# Altium integrated library Linear Technology Power Management LDO Linear Regulators.IntLib: 2339 symbols (part 101 of 131)
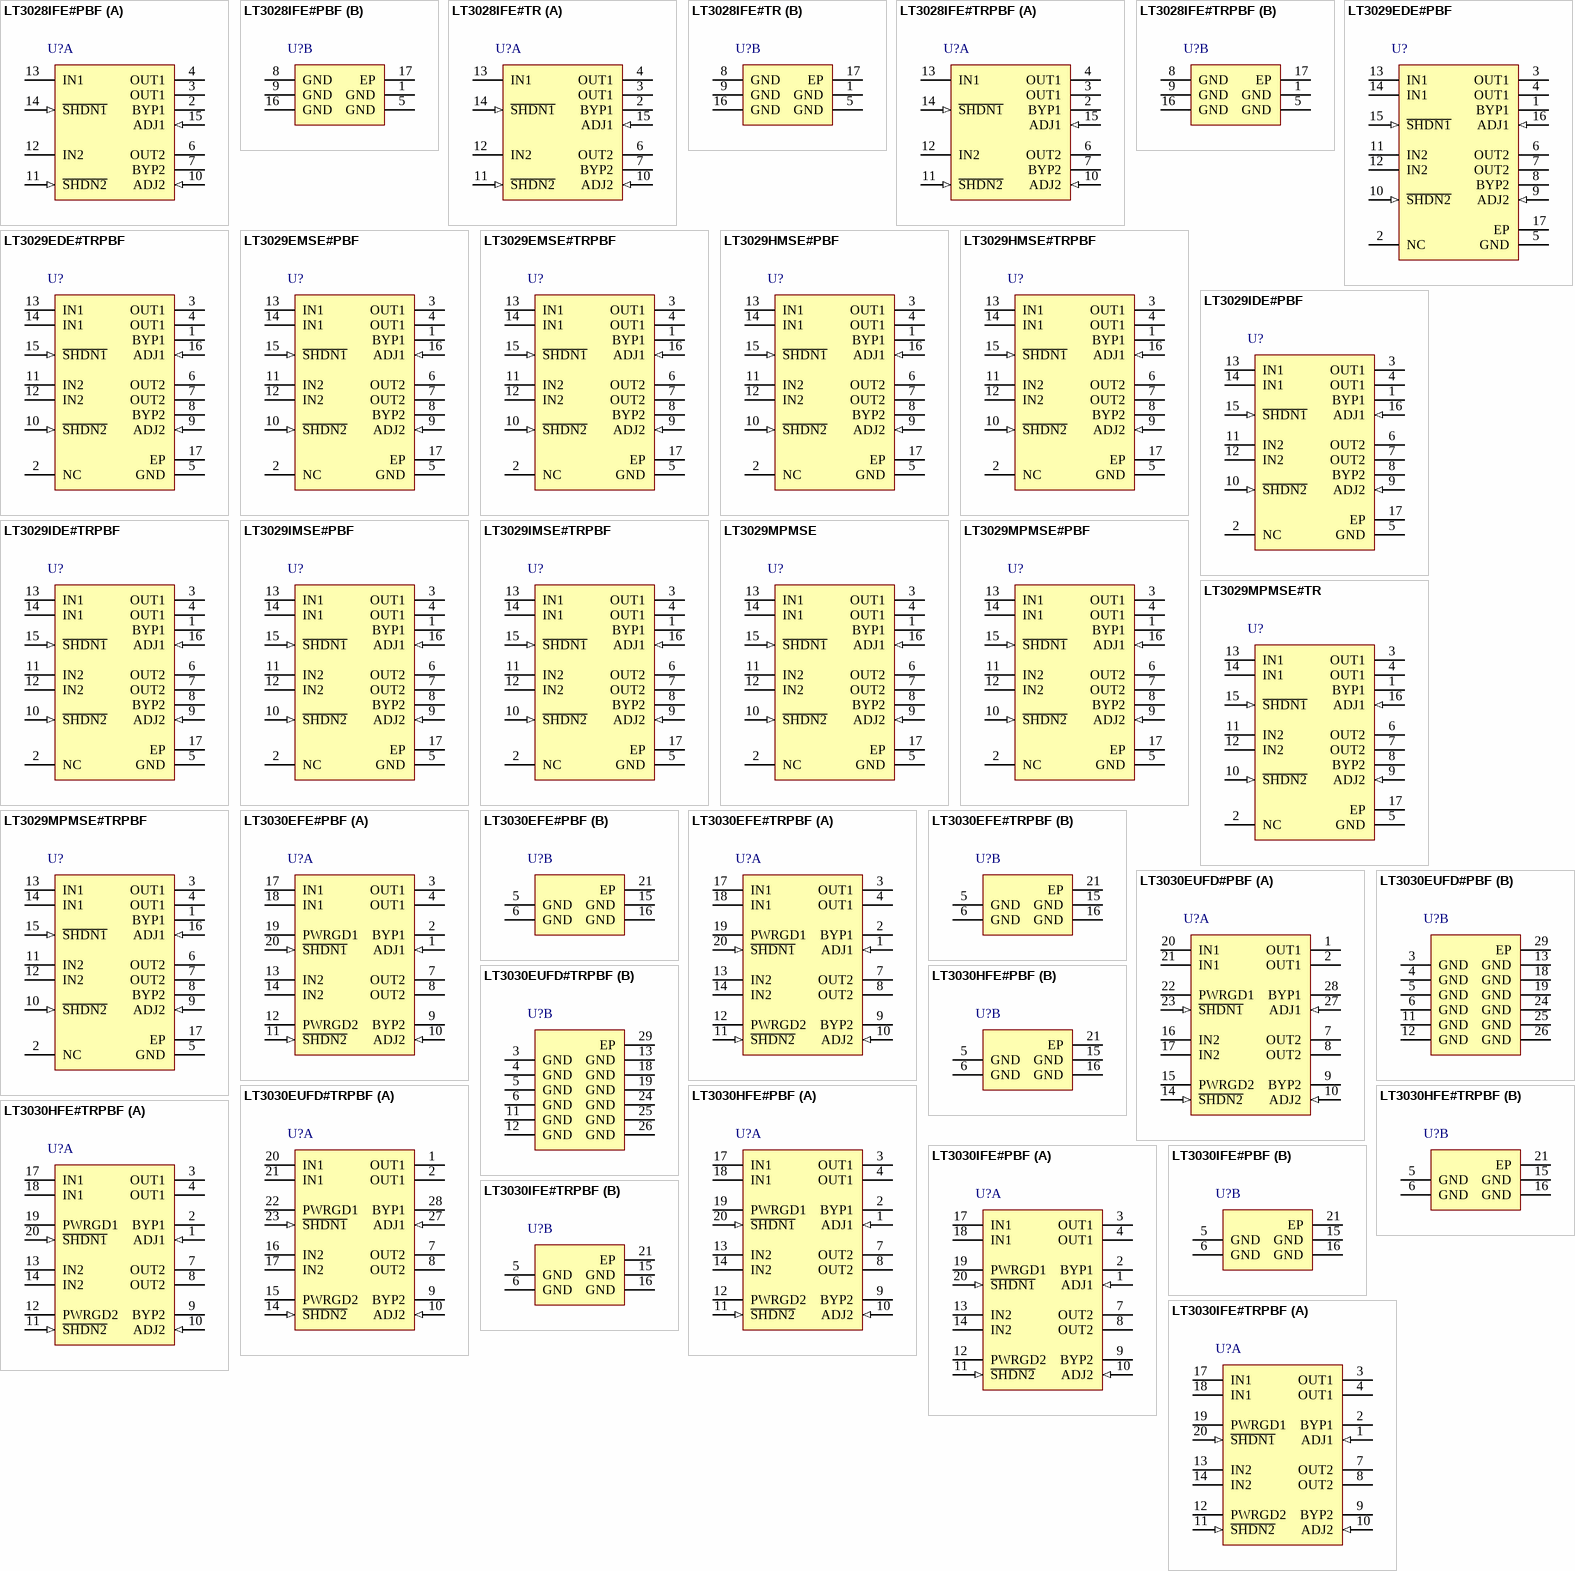
[diagram p169: symbols LT3028IFE#PBF to LT3030IFE#TRPBF]

## LT3030EUFD#PBF
designator U?
Dual 750 mA / 250 mA Low Dropout, Low Noise, Micropower Linear Regulator, 1.7 to 20 V Vin, Adjustable Vout, 28-pin QFN (UFD-28), -40 to 125 degC, Pb-Free; Manufacturer: Linear Technology; PartNumber: LT3030EUFD#PBF; Discrete Pass Element: no; Dropout Voltage(V): 0.3; Iout(mA): 750; Isupply(mA): 15; Noise(uV): 20; Number of Outputs: 2; Output Voltage: Adj; PSRR(dB): 60; Vin Min(V): 1.7; Vout Max(V): 19.5; Vout Min(V): 1.22; DatasheetVersion: Rev. A; PackageVersion: Rev. B, 06/2010; PackageReference: UFD-28; PackageDescription: 28-Pin Plastic QFN, Body 5 x 4 mm, Pitch 0.5 mm; Supplier 1: Digi-Key; Supplier Part Number 1: LT3030EUFD#PBF-ND; Supplier 2: Farnell; Supplier Part Number 2: 2313415; Supplier 3: Newark; Supplier Part Number 3: 71W8563; RoHS: TRUE; Shutdown Current(uA): 0.3; Vin Max(V): 20; Mounting Technology: Surface Mount; Code_JEDEC: MO-220; ComponentLink1Description: Manufacturer URL; ComponentLink1URL: http://www.linear.com/; ComponentLink2Description: Datasheet; ComponentLink2URL: http://cds.linear.com/docs/en/datasheet/3030fa.pdf; ComponentLink3Description: Package Specification; ComponentLink3URL: http://cds.linear.com/docs/en/packaging/QFN_28_05-08-1712.pdf
footprint LT-UFD-28_N (QFN, 28-Leads, Body 5x4mm, Pitch 0.5mm, Thermal Pad 3.65x2.65mm, IPC Medium Density)
footprint LT-UFD-28_L (QFN, 28-Leads, Body 5x4mm, Pitch 0.5mm, Thermal Pad 3.65x2.65mm, IPC High Density)
footprint LT-UFD-28_M (QFN, 28-Leads, Body 5x4mm, Pitch 0.5mm, Thermal Pad 3.65x2.65mm, IPC Low Density)
part A pins: 1 OUT1 (power) "Output. The OUT1/OUT2 pins supply power to the loads. A minimum 10uF/3.3uF output capacitor prevents oscillations on OUT1/OUT2. Applications with large output load transients require larger values of output capacitance to (See Datasheet)", 2 OUT1 (power) "Output. The OUT1/OUT2 pins supply power to the loads. A minimum 10uF/3.3uF output capacitor prevents oscillations on OUT1/OUT2. Applications with large output load transients require larger values of output capacitance to (See Datasheet)", 7 OUT2 (power) "Output. The OUT1/OUT2 pins supply power to the loads. A minimum 10uF/3.3uF output capacitor prevents oscillations on OUT1/OUT2. Applications with large output load transients require larger values of output capacitance to (See Datasheet)", 8 OUT2 (power) "Output. The OUT1/OUT2 pins supply power to the loads. A minimum 10uF/3.3uF output capacitor prevents oscillations on OUT1/OUT2. Applications with large output load transients require larger values of output capacitance to (See Datasheet)", 9 BYP2 "Bypass. Connecting a capacitor between OUT and BYP of a respective channel bypasses the LT3030 reference to achieve low noise performance, improve transient response and soft-start the output. Internal circuitry clamps the (See Datasheet)", 10 ADJ2 (in) "Adjust Pin. These are the error amplifier inputs. These pins are internally clamped to +/-9V. A typical input bias current of 30nA flows into the pins (see curve of ADJ1/ADJ2 Pin Bias Current vs Temperature in the Typical (See Datasheet)", 14 ~{SHDN2} (in) "Shutdown. Pulling the S\H\D\N\1\ or S\H\D\N\2\ pin low puts its corresponding LT3030 channel into a low power state and turns its output off. The S\H\D\N\1\ and S\H\D\N\2\ pins are completely independent of each other, and (See Datasheet)", 15 PWRGD2 (hiz) "Power Good. The PWRGD flag is an open-collector flag to indicate that the output voltage has increased above 90% of the nominal output voltage. There is no internal pull-up on this pin; a pull-up resistor must be used. The (See Datasheet)", 16 IN2 (power) "Input. The IN1/IN2 pins supply power to each channel. The LT3030 requires a bypass capacitor at the IN1/IN2 pins if located more than six inches away from the main input filter capacitor. Include a bypass capacitor in (See Datasheet)", 17 IN2 (power) "Input. The IN1/IN2 pins supply power to each channel. The LT3030 requires a bypass capacitor at the IN1/IN2 pins if located more than six inches away from the main input filter capacitor. Include a bypass capacitor in (See Datasheet)", 20 IN1 (power) "Input. The IN1/IN2 pins supply power to each channel. The LT3030 requires a bypass capacitor at the IN1/IN2 pins if located more than six inches away from the main input filter capacitor. Include a bypass capacitor in (See Datasheet)", 21 IN1 (power) "Input. The IN1/IN2 pins supply power to each channel. The LT3030 requires a bypass capacitor at the IN1/IN2 pins if located more than six inches away from the main input filter capacitor. Include a bypass capacitor in (See Datasheet)", 22 PWRGD1 (hiz) "Power Good. The PWRGD flag is an open-collector flag to indicate that the output voltage has increased above 90% of the nominal output voltage. There is no internal pull-up on this pin; a pull-up resistor must be used. The (See Datasheet)", 23 ~{SHDN1} (in) "Shutdown. Pulling the S\H\D\N\1\ or S\H\D\N\2\ pin low puts its corresponding LT3030 channel into a low power state and turns its output off. The S\H\D\N\1\ and S\H\D\N\2\ pins are completely independent of each other, and (See Datasheet)", 27 ADJ1 (in) "Adjust Pin. These are the error amplifier inputs. These pins are internally clamped to +/-9V. A typical input bias current of 30nA flows into the pins (see curve of ADJ1/ADJ2 Pin Bias Current vs Temperature in the Typical (See Datasheet)", 28 BYP1 "Bypass. Connecting a capacitor between OUT and BYP of a respective channel bypasses the LT3030 reference to achieve low noise performance, improve transient response and soft-start the output. Internal circuitry clamps the (See Datasheet)"
part B pins: 3 GND (power) "Ground. The exposed pad (backside) of the QFN and TSSOP packages is an electrical connection to GND. To ensure proper electrical and thermal performance, solder the exposed pad to the PCB ground and tie directly to GND pins. (See Datasheet)", 4 GND (power) "Ground. The exposed pad (backside) of the QFN and TSSOP packages is an electrical connection to GND. To ensure proper electrical and thermal performance, solder the exposed pad to the PCB ground and tie directly to GND pins. (See Datasheet)", 5 GND (power) "Ground. The exposed pad (backside) of the QFN and TSSOP packages is an electrical connection to GND. To ensure proper electrical and thermal performance, solder the exposed pad to the PCB ground and tie directly to GND pins. (See Datasheet)", 6 GND (power) "Ground. The exposed pad (backside) of the QFN and TSSOP packages is an electrical connection to GND. To ensure proper electrical and thermal performance, solder the exposed pad to the PCB ground and tie directly to GND pins. (See Datasheet)", 11 GND (power) "Ground. The exposed pad (backside) of the QFN and TSSOP packages is an electrical connection to GND. To ensure proper electrical and thermal performance, solder the exposed pad to the PCB ground and tie directly to GND pins. (See Datasheet)", 12 GND (power) "Ground. The exposed pad (backside) of the QFN and TSSOP packages is an electrical connection to GND. To ensure proper electrical and thermal performance, solder the exposed pad to the PCB ground and tie directly to GND pins. (See Datasheet)", 13 GND (power) "Ground. The exposed pad (backside) of the QFN and TSSOP packages is an electrical connection to GND. To ensure proper electrical and thermal performance, solder the exposed pad to the PCB ground and tie directly to GND pins. (See Datasheet)", 18 GND (power) "Ground. The exposed pad (backside) of the QFN and TSSOP packages is an electrical connection to GND. To ensure proper electrical and thermal performance, solder the exposed pad to the PCB ground and tie directly to GND pins. (See Datasheet)", 19 GND (power) "Ground. The exposed pad (backside) of the QFN and TSSOP packages is an electrical connection to GND. To ensure proper electrical and thermal performance, solder the exposed pad to the PCB ground and tie directly to GND pins. (See Datasheet)", 24 GND (power) "Ground. The exposed pad (backside) of the QFN and TSSOP packages is an electrical connection to GND. To ensure proper electrical and thermal performance, solder the exposed pad to the PCB ground and tie directly to GND pins. (See Datasheet)", 25 GND (power) "Ground. The exposed pad (backside) of the QFN and TSSOP packages is an electrical connection to GND. To ensure proper electrical and thermal performance, solder the exposed pad to the PCB ground and tie directly to GND pins. (See Datasheet)", 26 GND (power) "Ground. The exposed pad (backside) of the QFN and TSSOP packages is an electrical connection to GND. To ensure proper electrical and thermal performance, solder the exposed pad to the PCB ground and tie directly to GND pins. (See Datasheet)", 29 EP (power) "Ground. The exposed pad (backside) of the QFN and TSSOP packages is an electrical connection to GND. To ensure proper electrical and thermal performance, solder the exposed pad to the PCB ground and tie directly to GND pins. (See Datasheet)"

## LT3030EUFD#TRPBF
designator U?
Dual 750 mA / 250 mA Low Dropout, Low Noise, Micropower Linear Regulator, 1.7 to 20 V Vin, Adjustable Vout, 28-pin QFN (UFD-28), -40 to 125 degC, Pb-Free, Tape and Reel; Manufacturer: Linear Technology; PartNumber: LT3030EUFD#TRPBF; Discrete Pass Element: no; Dropout Voltage(V): 0.3; Iout(mA): 750; Isupply(mA): 15; Noise(uV): 20; Number of Outputs: 2; Output Voltage: Adj; PSRR(dB): 60; Vin Min(V): 1.7; Vout Max(V): 19.5; Vout Min(V): 1.22; DatasheetVersion: Rev. A; PackageVersion: Rev. B, 06/2010; PackageReference: UFD-28; PackageDescription: 28-Pin Plastic QFN, Body 5 x 4 mm, Pitch 0.5 mm; Supplier 1: Digi-Key; Supplier Part Number 1: LT3030EUFD#TRPBF-ND; Supplier 2: Newark; Supplier Part Number 2: 71W8564; Packing: Tape and Reel; RoHS: TRUE; Shutdown Current(uA): 0.3; Vin Max(V): 20; Mounting Technology: Surface Mount; Code_JEDEC: MO-220; ComponentLink1Description: Manufacturer URL; ComponentLink1URL: http://www.linear.com/; ComponentLink2Description: Datasheet; ComponentLink2URL: http://cds.linear.com/docs/en/datasheet/3030fa.pdf; ComponentLink3Description: Package Specification; ComponentLink3URL: http://cds.linear.com/docs/en/packaging/QFN_28_05-08-1712.pdf
footprint LT-UFD-28_N (QFN, 28-Leads, Body 5x4mm, Pitch 0.5mm, Thermal Pad 3.65x2.65mm, IPC Medium Density)
footprint LT-UFD-28_L (QFN, 28-Leads, Body 5x4mm, Pitch 0.5mm, Thermal Pad 3.65x2.65mm, IPC High Density)
footprint LT-UFD-28_M (QFN, 28-Leads, Body 5x4mm, Pitch 0.5mm, Thermal Pad 3.65x2.65mm, IPC Low Density)
part A pins: 1 OUT1 (power) "Output. The OUT1/OUT2 pins supply power to the loads. A minimum 10uF/3.3uF output capacitor prevents oscillations on OUT1/OUT2. Applications with large output load transients require larger values of output capacitance to (See Datasheet)", 2 OUT1 (power) "Output. The OUT1/OUT2 pins supply power to the loads. A minimum 10uF/3.3uF output capacitor prevents oscillations on OUT1/OUT2. Applications with large output load transients require larger values of output capacitance to (See Datasheet)", 7 OUT2 (power) "Output. The OUT1/OUT2 pins supply power to the loads. A minimum 10uF/3.3uF output capacitor prevents oscillations on OUT1/OUT2. Applications with large output load transients require larger values of output capacitance to (See Datasheet)", 8 OUT2 (power) "Output. The OUT1/OUT2 pins supply power to the loads. A minimum 10uF/3.3uF output capacitor prevents oscillations on OUT1/OUT2. Applications with large output load transients require larger values of output capacitance to (See Datasheet)", 9 BYP2 "Bypass. Connecting a capacitor between OUT and BYP of a respective channel bypasses the LT3030 reference to achieve low noise performance, improve transient response and soft-start the output. Internal circuitry clamps the (See Datasheet)", 10 ADJ2 (in) "Adjust Pin. These are the error amplifier inputs. These pins are internally clamped to +/-9V. A typical input bias current of 30nA flows into the pins (see curve of ADJ1/ADJ2 Pin Bias Current vs Temperature in the Typical (See Datasheet)", 14 ~{SHDN2} (in) "Shutdown. Pulling the S\H\D\N\1\ or S\H\D\N\2\ pin low puts its corresponding LT3030 channel into a low power state and turns its output off. The S\H\D\N\1\ and S\H\D\N\2\ pins are completely independent of each other, and (See Datasheet)", 15 PWRGD2 (hiz) "Power Good. The PWRGD flag is an open-collector flag to indicate that the output voltage has increased above 90% of the nominal output voltage. There is no internal pull-up on this pin; a pull-up resistor must be used. The (See Datasheet)", 16 IN2 (power) "Input. The IN1/IN2 pins supply power to each channel. The LT3030 requires a bypass capacitor at the IN1/IN2 pins if located more than six inches away from the main input filter capacitor. Include a bypass capacitor in (See Datasheet)", 17 IN2 (power) "Input. The IN1/IN2 pins supply power to each channel. The LT3030 requires a bypass capacitor at the IN1/IN2 pins if located more than six inches away from the main input filter capacitor. Include a bypass capacitor in (See Datasheet)", 20 IN1 (power) "Input. The IN1/IN2 pins supply power to each channel. The LT3030 requires a bypass capacitor at the IN1/IN2 pins if located more than six inches away from the main input filter capacitor. Include a bypass capacitor in (See Datasheet)", 21 IN1 (power) "Input. The IN1/IN2 pins supply power to each channel. The LT3030 requires a bypass capacitor at the IN1/IN2 pins if located more than six inches away from the main input filter capacitor. Include a bypass capacitor in (See Datasheet)", 22 PWRGD1 (hiz) "Power Good. The PWRGD flag is an open-collector flag to indicate that the output voltage has increased above 90% of the nominal output voltage. There is no internal pull-up on this pin; a pull-up resistor must be used. The (See Datasheet)", 23 ~{SHDN1} (in) "Shutdown. Pulling the S\H\D\N\1\ or S\H\D\N\2\ pin low puts its corresponding LT3030 channel into a low power state and turns its output off. The S\H\D\N\1\ and S\H\D\N\2\ pins are completely independent of each other, and (See Datasheet)", 27 ADJ1 (in) "Adjust Pin. These are the error amplifier inputs. These pins are internally clamped to +/-9V. A typical input bias current of 30nA flows into the pins (see curve of ADJ1/ADJ2 Pin Bias Current vs Temperature in the Typical (See Datasheet)", 28 BYP1 "Bypass. Connecting a capacitor between OUT and BYP of a respective channel bypasses the LT3030 reference to achieve low noise performance, improve transient response and soft-start the output. Internal circuitry clamps the (See Datasheet)"
part B pins: 3 GND (power) "Ground. The exposed pad (backside) of the QFN and TSSOP packages is an electrical connection to GND. To ensure proper electrical and thermal performance, solder the exposed pad to the PCB ground and tie directly to GND pins. (See Datasheet)", 4 GND (power) "Ground. The exposed pad (backside) of the QFN and TSSOP packages is an electrical connection to GND. To ensure proper electrical and thermal performance, solder the exposed pad to the PCB ground and tie directly to GND pins. (See Datasheet)", 5 GND (power) "Ground. The exposed pad (backside) of the QFN and TSSOP packages is an electrical connection to GND. To ensure proper electrical and thermal performance, solder the exposed pad to the PCB ground and tie directly to GND pins. (See Datasheet)", 6 GND (power) "Ground. The exposed pad (backside) of the QFN and TSSOP packages is an electrical connection to GND. To ensure proper electrical and thermal performance, solder the exposed pad to the PCB ground and tie directly to GND pins. (See Datasheet)", 11 GND (power) "Ground. The exposed pad (backside) of the QFN and TSSOP packages is an electrical connection to GND. To ensure proper electrical and thermal performance, solder the exposed pad to the PCB ground and tie directly to GND pins. (See Datasheet)", 12 GND (power) "Ground. The exposed pad (backside) of the QFN and TSSOP packages is an electrical connection to GND. To ensure proper electrical and thermal performance, solder the exposed pad to the PCB ground and tie directly to GND pins. (See Datasheet)", 13 GND (power) "Ground. The exposed pad (backside) of the QFN and TSSOP packages is an electrical connection to GND. To ensure proper electrical and thermal performance, solder the exposed pad to the PCB ground and tie directly to GND pins. (See Datasheet)", 18 GND (power) "Ground. The exposed pad (backside) of the QFN and TSSOP packages is an electrical connection to GND. To ensure proper electrical and thermal performance, solder the exposed pad to the PCB ground and tie directly to GND pins. (See Datasheet)", 19 GND (power) "Ground. The exposed pad (backside) of the QFN and TSSOP packages is an electrical connection to GND. To ensure proper electrical and thermal performance, solder the exposed pad to the PCB ground and tie directly to GND pins. (See Datasheet)", 24 GND (power) "Ground. The exposed pad (backside) of the QFN and TSSOP packages is an electrical connection to GND. To ensure proper electrical and thermal performance, solder the exposed pad to the PCB ground and tie directly to GND pins. (See Datasheet)", 25 GND (power) "Ground. The exposed pad (backside) of the QFN and TSSOP packages is an electrical connection to GND. To ensure proper electrical and thermal performance, solder the exposed pad to the PCB ground and tie directly to GND pins. (See Datasheet)", 26 GND (power) "Ground. The exposed pad (backside) of the QFN and TSSOP packages is an electrical connection to GND. To ensure proper electrical and thermal performance, solder the exposed pad to the PCB ground and tie directly to GND pins. (See Datasheet)", 29 EP (power) "Ground. The exposed pad (backside) of the QFN and TSSOP packages is an electrical connection to GND. To ensure proper electrical and thermal performance, solder the exposed pad to the PCB ground and tie directly to GND pins. (See Datasheet)"

## LT3030HFE#PBF
designator U?
Dual 750 mA / 250 mA Low Dropout, Low Noise, Micropower Linear Regulator, 1.7 to 20 V Vin, Adjustable Vout, 20-pin SOP (FE-20-EPV-CB), -40 to 150 degC, Pb-Free; Manufacturer: Linear Technology; PartNumber: LT3030HFE#PBF; Discrete Pass Element: no; Dropout Voltage(V): 0.3; Iout(mA): 750; Isupply(mA): 15; Noise(uV): 20; Number of Outputs: 2; Output Voltage: Adj; PSRR(dB): 60; Vin Min(V): 1.7; Vout Max(V): 19.5; Vout Min(V): 1.22; DatasheetVersion: Rev. A; PackageVersion: Rev. I, 05/2011; PackageReference: FE-20; PackageDescription: 20-Pin Plastic TSSOP, Body 6.5 x 4.4 mm, Pitch 0.65 mm; Supplier 1: Digi-Key; Supplier Part Number 1: LT3030HFE#PBF-ND; Supplier 2: Farnell; Supplier Part Number 2: 2313416; Supplier 3: Newark; Supplier Part Number 3: 71W8565; RoHS: TRUE; Shutdown Current(uA): 0.3; Vin Max(V): 20; Mounting Technology: Surface Mount; ComponentLink1Description: Manufacturer URL; ComponentLink1URL: http://www.linear.com/; ComponentLink2Description: Datasheet; ComponentLink2URL: http://cds.linear.com/docs/en/datasheet/3030fa.pdf; ComponentLink3Description: Package Specification; ComponentLink3URL: http://cds.linear.com/docs/en/packaging/05081663__J_FE20(CB).pdf
footprint LT-FE-20-EPV-CB_N (SOP, 20-Leads, Body 6.6x4.5mm, Pitch 0.65mm, Thermal Pad 3.86x2.74mm, IPC Medium Density)
footprint LT-FE-20-EPV-CB_L (SOP, 20-Leads, Body 6.6x4.5mm, Pitch 0.65mm, Thermal Pad 3.86x2.74mm, IPC High Density)
footprint LT-FE-20-EPV-CB_M (SOP, 20-Leads, Body 6.6x4.5mm, Pitch 0.65mm, Thermal Pad 3.86x2.74mm, IPC Low Density)
part A pins: 1 ADJ1 (in) "Adjust Pin. These are the error amplifier inputs. These pins are internally clamped to +/-9V. A typical input bias current of 30nA flows into the pins (see curve of ADJ1/ADJ2 Pin Bias Current vs Temperature in the Typical (See Datasheet)", 2 BYP1 "Bypass. Connecting a capacitor between OUT and BYP of a respective channel bypasses the LT3030 reference to achieve low noise performance, improve transient response and soft-start the output. Internal circuitry clamps the (See Datasheet)", 3 OUT1 (power) "Output. The OUT1/OUT2 pins supply power to the loads. A minimum 10uF/3.3uF output capacitor prevents oscillations on OUT1/OUT2. Applications with large output load transients require larger values of output capacitance to (See Datasheet)", 4 OUT1 (power) "Output. The OUT1/OUT2 pins supply power to the loads. A minimum 10uF/3.3uF output capacitor prevents oscillations on OUT1/OUT2. Applications with large output load transients require larger values of output capacitance to (See Datasheet)", 7 OUT2 (power) "Output. The OUT1/OUT2 pins supply power to the loads. A minimum 10uF/3.3uF output capacitor prevents oscillations on OUT1/OUT2. Applications with large output load transients require larger values of output capacitance to (See Datasheet)", 8 OUT2 (power) "Output. The OUT1/OUT2 pins supply power to the loads. A minimum 10uF/3.3uF output capacitor prevents oscillations on OUT1/OUT2. Applications with large output load transients require larger values of output capacitance to (See Datasheet)", 9 BYP2 "Bypass. Connecting a capacitor between OUT and BYP of a respective channel bypasses the LT3030 reference to achieve low noise performance, improve transient response and soft-start the output. Internal circuitry clamps the (See Datasheet)", 10 ADJ2 (in) "Adjust Pin. These are the error amplifier inputs. These pins are internally clamped to +/-9V. A typical input bias current of 30nA flows into the pins (see curve of ADJ1/ADJ2 Pin Bias Current vs Temperature in the Typical (See Datasheet)", 11 ~{SHDN2} (in) "Shutdown. Pulling the S\H\D\N\1\ or S\H\D\N\2\ pin low puts its corresponding LT3030 channel into a low power state and turns its output off. The S\H\D\N\1\ and S\H\D\N\2\ pins are completely independent of each other, and (See Datasheet)", 12 PWRGD2 (hiz) "Power Good. The PWRGD flag is an open-collector flag to indicate that the output voltage has increased above 90% of the nominal output voltage. There is no internal pull-up on this pin; a pull-up resistor must be used. The (See Datasheet)", 13 IN2 (power) "Input. The IN1/IN2 pins supply power to each channel. The LT3030 requires a bypass capacitor at the IN1/IN2 pins if located more than six inches away from the main input filter capacitor. Include a bypass capacitor in (See Datasheet)", 14 IN2 (power) "Input. The IN1/IN2 pins supply power to each channel. The LT3030 requires a bypass capacitor at the IN1/IN2 pins if located more than six inches away from the main input filter capacitor. Include a bypass capacitor in (See Datasheet)", 17 IN1 (power) "Input. The IN1/IN2 pins supply power to each channel. The LT3030 requires a bypass capacitor at the IN1/IN2 pins if located more than six inches away from the main input filter capacitor. Include a bypass capacitor in (See Datasheet)", 18 IN1 (power) "Input. The IN1/IN2 pins supply power to each channel. The LT3030 requires a bypass capacitor at the IN1/IN2 pins if located more than six inches away from the main input filter capacitor. Include a bypass capacitor in (See Datasheet)", 19 PWRGD1 (hiz) "Power Good. The PWRGD flag is an open-collector flag to indicate that the output voltage has increased above 90% of the nominal output voltage. There is no internal pull-up on this pin; a pull-up resistor must be used. The (See Datasheet)", 20 ~{SHDN1} (in) "Shutdown. Pulling the S\H\D\N\1\ or S\H\D\N\2\ pin low puts its corresponding LT3030 channel into a low power state and turns its output off. The S\H\D\N\1\ and S\H\D\N\2\ pins are completely independent of each other, and (See Datasheet)"
part B pins: 5 GND (power) "Ground. The exposed pad (backside) of the QFN and TSSOP packages is an electrical connection to GND. To ensure proper electrical and thermal performance, solder the exposed pad to the PCB ground and tie directly to GND pins. (See Datasheet)", 6 GND (power) "Ground. The exposed pad (backside) of the QFN and TSSOP packages is an electrical connection to GND. To ensure proper electrical and thermal performance, solder the exposed pad to the PCB ground and tie directly to GND pins. (See Datasheet)", 15 GND (power) "Ground. The exposed pad (backside) of the QFN and TSSOP packages is an electrical connection to GND. To ensure proper electrical and thermal performance, solder the exposed pad to the PCB ground and tie directly to GND pins. (See Datasheet)", 16 GND (power) "Ground. The exposed pad (backside) of the QFN and TSSOP packages is an electrical connection to GND. To ensure proper electrical and thermal performance, solder the exposed pad to the PCB ground and tie directly to GND pins. (See Datasheet)", 21 EP (power) "Ground. The exposed pad (backside) of the QFN and TSSOP packages is an electrical connection to GND. To ensure proper electrical and thermal performance, solder the exposed pad to the PCB ground and tie directly to GND pins. (See Datasheet)"

## LT3030HFE#TRPBF
designator U?
Dual 750 mA / 250 mA Low Dropout, Low Noise, Micropower Linear Regulator, 1.7 to 20 V Vin, Adjustable Vout, 20-pin SOP (FE-20-EPV-CB), -40 to 150 degC, Pb-Free, Tape and Reel; Manufacturer: Linear Technology; PartNumber: LT3030HFE#TRPBF; Discrete Pass Element: no; Dropout Voltage(V): 0.3; Iout(mA): 750; Isupply(mA): 15; Noise(uV): 20; Number of Outputs: 2; Output Voltage: Adj; PSRR(dB): 60; Vin Min(V): 1.7; Vout Max(V): 19.5; Vout Min(V): 1.22; DatasheetVersion: Rev. A; PackageVersion: Rev. I, 05/2011; PackageReference: FE-20; PackageDescription: 20-Pin Plastic TSSOP, Body 6.5 x 4.4 mm, Pitch 0.65 mm; Supplier 1: Digi-Key; Supplier Part Number 1: LT3030HFE#TRPBF-ND; Supplier 2: Newark; Supplier Part Number 2: 71W8566; Packing: Tape and Reel; RoHS: TRUE; Shutdown Current(uA): 0.3; Vin Max(V): 20; Mounting Technology: Surface Mount; ComponentLink1Description: Manufacturer URL; ComponentLink1URL: http://www.linear.com/; ComponentLink2Description: Datasheet; ComponentLink2URL: http://cds.linear.com/docs/en/datasheet/3030fa.pdf; ComponentLink3Description: Package Specification; ComponentLink3URL: http://cds.linear.com/docs/en/packaging/05081663__J_FE20(CB).pdf
footprint LT-FE-20-EPV-CB_N (SOP, 20-Leads, Body 6.6x4.5mm, Pitch 0.65mm, Thermal Pad 3.86x2.74mm, IPC Medium Density)
footprint LT-FE-20-EPV-CB_L (SOP, 20-Leads, Body 6.6x4.5mm, Pitch 0.65mm, Thermal Pad 3.86x2.74mm, IPC High Density)
footprint LT-FE-20-EPV-CB_M (SOP, 20-Leads, Body 6.6x4.5mm, Pitch 0.65mm, Thermal Pad 3.86x2.74mm, IPC Low Density)
part A pins: 1 ADJ1 (in) "Adjust Pin. These are the error amplifier inputs. These pins are internally clamped to +/-9V. A typical input bias current of 30nA flows into the pins (see curve of ADJ1/ADJ2 Pin Bias Current vs Temperature in the Typical (See Datasheet)", 2 BYP1 "Bypass. Connecting a capacitor between OUT and BYP of a respective channel bypasses the LT3030 reference to achieve low noise performance, improve transient response and soft-start the output. Internal circuitry clamps the (See Datasheet)", 3 OUT1 (power) "Output. The OUT1/OUT2 pins supply power to the loads. A minimum 10uF/3.3uF output capacitor prevents oscillations on OUT1/OUT2. Applications with large output load transients require larger values of output capacitance to (See Datasheet)", 4 OUT1 (power) "Output. The OUT1/OUT2 pins supply power to the loads. A minimum 10uF/3.3uF output capacitor prevents oscillations on OUT1/OUT2. Applications with large output load transients require larger values of output capacitance to (See Datasheet)", 7 OUT2 (power) "Output. The OUT1/OUT2 pins supply power to the loads. A minimum 10uF/3.3uF output capacitor prevents oscillations on OUT1/OUT2. Applications with large output load transients require larger values of output capacitance to (See Datasheet)", 8 OUT2 (power) "Output. The OUT1/OUT2 pins supply power to the loads. A minimum 10uF/3.3uF output capacitor prevents oscillations on OUT1/OUT2. Applications with large output load transients require larger values of output capacitance to (See Datasheet)", 9 BYP2 "Bypass. Connecting a capacitor between OUT and BYP of a respective channel bypasses the LT3030 reference to achieve low noise performance, improve transient response and soft-start the output. Internal circuitry clamps the (See Datasheet)", 10 ADJ2 (in) "Adjust Pin. These are the error amplifier inputs. These pins are internally clamped to +/-9V. A typical input bias current of 30nA flows into the pins (see curve of ADJ1/ADJ2 Pin Bias Current vs Temperature in the Typical (See Datasheet)", 11 ~{SHDN2} (in) "Shutdown. Pulling the S\H\D\N\1\ or S\H\D\N\2\ pin low puts its corresponding LT3030 channel into a low power state and turns its output off. The S\H\D\N\1\ and S\H\D\N\2\ pins are completely independent of each other, and (See Datasheet)", 12 PWRGD2 (hiz) "Power Good. The PWRGD flag is an open-collector flag to indicate that the output voltage has increased above 90% of the nominal output voltage. There is no internal pull-up on this pin; a pull-up resistor must be used. The (See Datasheet)", 13 IN2 (power) "Input. The IN1/IN2 pins supply power to each channel. The LT3030 requires a bypass capacitor at the IN1/IN2 pins if located more than six inches away from the main input filter capacitor. Include a bypass capacitor in (See Datasheet)", 14 IN2 (power) "Input. The IN1/IN2 pins supply power to each channel. The LT3030 requires a bypass capacitor at the IN1/IN2 pins if located more than six inches away from the main input filter capacitor. Include a bypass capacitor in (See Datasheet)", 17 IN1 (power) "Input. The IN1/IN2 pins supply power to each channel. The LT3030 requires a bypass capacitor at the IN1/IN2 pins if located more than six inches away from the main input filter capacitor. Include a bypass capacitor in (See Datasheet)", 18 IN1 (power) "Input. The IN1/IN2 pins supply power to each channel. The LT3030 requires a bypass capacitor at the IN1/IN2 pins if located more than six inches away from the main input filter capacitor. Include a bypass capacitor in (See Datasheet)", 19 PWRGD1 (hiz) "Power Good. The PWRGD flag is an open-collector flag to indicate that the output voltage has increased above 90% of the nominal output voltage. There is no internal pull-up on this pin; a pull-up resistor must be used. The (See Datasheet)", 20 ~{SHDN1} (in) "Shutdown. Pulling the S\H\D\N\1\ or S\H\D\N\2\ pin low puts its corresponding LT3030 channel into a low power state and turns its output off. The S\H\D\N\1\ and S\H\D\N\2\ pins are completely independent of each other, and (See Datasheet)"
part B pins: 5 GND (power) "Ground. The exposed pad (backside) of the QFN and TSSOP packages is an electrical connection to GND. To ensure proper electrical and thermal performance, solder the exposed pad to the PCB ground and tie directly to GND pins. (See Datasheet)", 6 GND (power) "Ground. The exposed pad (backside) of the QFN and TSSOP packages is an electrical connection to GND. To ensure proper electrical and thermal performance, solder the exposed pad to the PCB ground and tie directly to GND pins. (See Datasheet)", 15 GND (power) "Ground. The exposed pad (backside) of the QFN and TSSOP packages is an electrical connection to GND. To ensure proper electrical and thermal performance, solder the exposed pad to the PCB ground and tie directly to GND pins. (See Datasheet)", 16 GND (power) "Ground. The exposed pad (backside) of the QFN and TSSOP packages is an electrical connection to GND. To ensure proper electrical and thermal performance, solder the exposed pad to the PCB ground and tie directly to GND pins. (See Datasheet)", 21 EP (power) "Ground. The exposed pad (backside) of the QFN and TSSOP packages is an electrical connection to GND. To ensure proper electrical and thermal performance, solder the exposed pad to the PCB ground and tie directly to GND pins. (See Datasheet)"

## LT3030IFE#PBF
designator U?
Dual 750 mA / 250 mA Low Dropout, Low Noise, Micropower Linear Regulator, 1.7 to 20 V Vin, Adjustable Vout, 20-pin SOP (FE-20-EPV-CB), -40 to 125 degC, Pb-Free; Manufacturer: Linear Technology; PartNumber: LT3030IFE#PBF; Discrete Pass Element: no; Dropout Voltage(V): 0.3; Iout(mA): 750; Isupply(mA): 15; Noise(uV): 20; Number of Outputs: 2; Output Voltage: Adj; PSRR(dB): 60; Vin Min(V): 1.7; Vout Max(V): 19.5; Vout Min(V): 1.22; DatasheetVersion: Rev. A; PackageVersion: Rev. I, 05/2011; PackageReference: FE-20; PackageDescription: 20-Pin Plastic TSSOP, Body 6.5 x 4.4 mm, Pitch 0.65 mm; Supplier 1: Digi-Key; Supplier Part Number 1: LT3030IFE#PBF-ND; Supplier 2: Farnell; Supplier Part Number 2: 2313417; Supplier 3: Newark; Supplier Part Number 3: 71W8567; RoHS: TRUE; Shutdown Current(uA): 0.3; Vin Max(V): 20; Mounting Technology: Surface Mount; ComponentLink1Description: Manufacturer URL; ComponentLink1URL: http://www.linear.com/; ComponentLink2Description: Datasheet; ComponentLink2URL: http://cds.linear.com/docs/en/datasheet/3030fa.pdf; ComponentLink3Description: Package Specification; ComponentLink3URL: http://cds.linear.com/docs/en/packaging/05081663__J_FE20(CB).pdf
footprint LT-FE-20-EPV-CB_N (SOP, 20-Leads, Body 6.6x4.5mm, Pitch 0.65mm, Thermal Pad 3.86x2.74mm, IPC Medium Density)
footprint LT-FE-20-EPV-CB_L (SOP, 20-Leads, Body 6.6x4.5mm, Pitch 0.65mm, Thermal Pad 3.86x2.74mm, IPC High Density)
footprint LT-FE-20-EPV-CB_M (SOP, 20-Leads, Body 6.6x4.5mm, Pitch 0.65mm, Thermal Pad 3.86x2.74mm, IPC Low Density)
part A pins: 1 ADJ1 (in) "Adjust Pin. These are the error amplifier inputs. These pins are internally clamped to +/-9V. A typical input bias current of 30nA flows into the pins (see curve of ADJ1/ADJ2 Pin Bias Current vs Temperature in the Typical (See Datasheet)", 2 BYP1 "Bypass. Connecting a capacitor between OUT and BYP of a respective channel bypasses the LT3030 reference to achieve low noise performance, improve transient response and soft-start the output. Internal circuitry clamps the (See Datasheet)", 3 OUT1 (power) "Output. The OUT1/OUT2 pins supply power to the loads. A minimum 10uF/3.3uF output capacitor prevents oscillations on OUT1/OUT2. Applications with large output load transients require larger values of output capacitance to (See Datasheet)", 4 OUT1 (power) "Output. The OUT1/OUT2 pins supply power to the loads. A minimum 10uF/3.3uF output capacitor prevents oscillations on OUT1/OUT2. Applications with large output load transients require larger values of output capacitance to (See Datasheet)", 7 OUT2 (power) "Output. The OUT1/OUT2 pins supply power to the loads. A minimum 10uF/3.3uF output capacitor prevents oscillations on OUT1/OUT2. Applications with large output load transients require larger values of output capacitance to (See Datasheet)", 8 OUT2 (power) "Output. The OUT1/OUT2 pins supply power to the loads. A minimum 10uF/3.3uF output capacitor prevents oscillations on OUT1/OUT2. Applications with large output load transients require larger values of output capacitance to (See Datasheet)", 9 BYP2 "Bypass. Connecting a capacitor between OUT and BYP of a respective channel bypasses the LT3030 reference to achieve low noise performance, improve transient response and soft-start the output. Internal circuitry clamps the (See Datasheet)", 10 ADJ2 (in) "Adjust Pin. These are the error amplifier inputs. These pins are internally clamped to +/-9V. A typical input bias current of 30nA flows into the pins (see curve of ADJ1/ADJ2 Pin Bias Current vs Temperature in the Typical (See Datasheet)", 11 ~{SHDN2} (in) "Shutdown. Pulling the S\H\D\N\1\ or S\H\D\N\2\ pin low puts its corresponding LT3030 channel into a low power state and turns its output off. The S\H\D\N\1\ and S\H\D\N\2\ pins are completely independent of each other, and (See Datasheet)", 12 PWRGD2 (hiz) "Power Good. The PWRGD flag is an open-collector flag to indicate that the output voltage has increased above 90% of the nominal output voltage. There is no internal pull-up on this pin; a pull-up resistor must be used. The (See Datasheet)", 13 IN2 (power) "Input. The IN1/IN2 pins supply power to each channel. The LT3030 requires a bypass capacitor at the IN1/IN2 pins if located more than six inches away from the main input filter capacitor. Include a bypass capacitor in (See Datasheet)", 14 IN2 (power) "Input. The IN1/IN2 pins supply power to each channel. The LT3030 requires a bypass capacitor at the IN1/IN2 pins if located more than six inches away from the main input filter capacitor. Include a bypass capacitor in (See Datasheet)", 17 IN1 (power) "Input. The IN1/IN2 pins supply power to each channel. The LT3030 requires a bypass capacitor at the IN1/IN2 pins if located more than six inches away from the main input filter capacitor. Include a bypass capacitor in (See Datasheet)", 18 IN1 (power) "Input. The IN1/IN2 pins supply power to each channel. The LT3030 requires a bypass capacitor at the IN1/IN2 pins if located more than six inches away from the main input filter capacitor. Include a bypass capacitor in (See Datasheet)", 19 PWRGD1 (hiz) "Power Good. The PWRGD flag is an open-collector flag to indicate that the output voltage has increased above 90% of the nominal output voltage. There is no internal pull-up on this pin; a pull-up resistor must be used. The (See Datasheet)", 20 ~{SHDN1} (in) "Shutdown. Pulling the S\H\D\N\1\ or S\H\D\N\2\ pin low puts its corresponding LT3030 channel into a low power state and turns its output off. The S\H\D\N\1\ and S\H\D\N\2\ pins are completely independent of each other, and (See Datasheet)"
part B pins: 5 GND (power) "Ground. The exposed pad (backside) of the QFN and TSSOP packages is an electrical connection to GND. To ensure proper electrical and thermal performance, solder the exposed pad to the PCB ground and tie directly to GND pins. (See Datasheet)", 6 GND (power) "Ground. The exposed pad (backside) of the QFN and TSSOP packages is an electrical connection to GND. To ensure proper electrical and thermal performance, solder the exposed pad to the PCB ground and tie directly to GND pins. (See Datasheet)", 15 GND (power) "Ground. The exposed pad (backside) of the QFN and TSSOP packages is an electrical connection to GND. To ensure proper electrical and thermal performance, solder the exposed pad to the PCB ground and tie directly to GND pins. (See Datasheet)", 16 GND (power) "Ground. The exposed pad (backside) of the QFN and TSSOP packages is an electrical connection to GND. To ensure proper electrical and thermal performance, solder the exposed pad to the PCB ground and tie directly to GND pins. (See Datasheet)", 21 EP (power) "Ground. The exposed pad (backside) of the QFN and TSSOP packages is an electrical connection to GND. To ensure proper electrical and thermal performance, solder the exposed pad to the PCB ground and tie directly to GND pins. (See Datasheet)"

## LT3030IFE#TRPBF
designator U?
Dual 750 mA / 250 mA Low Dropout, Low Noise, Micropower Linear Regulator, 1.7 to 20 V Vin, Adjustable Vout, 20-pin SOP (FE-20-EPV-CB), -40 to 125 degC, Pb-Free, Tape and Reel; Manufacturer: Linear Technology; PartNumber: LT3030IFE#TRPBF; Discrete Pass Element: no; Dropout Voltage(V): 0.3; Iout(mA): 750; Isupply(mA): 15; Noise(uV): 20; Number of Outputs: 2; Output Voltage: Adj; PSRR(dB): 60; Vin Min(V): 1.7; Vout Max(V): 19.5; Vout Min(V): 1.22; DatasheetVersion: Rev. A; PackageVersion: Rev. I, 05/2011; PackageReference: FE-20; PackageDescription: 20-Pin Plastic TSSOP, Body 6.5 x 4.4 mm, Pitch 0.65 mm; Supplier 1: Digi-Key; Supplier Part Number 1: LT3030IFE#TRPBF-ND; Supplier 2: Newark; Supplier Part Number 2: 71W8568; Packing: Tape and Reel; RoHS: TRUE; Shutdown Current(uA): 0.3; Vin Max(V): 20; Mounting Technology: Surface Mount; ComponentLink1Description: Manufacturer URL; ComponentLink1URL: http://www.linear.com/; ComponentLink2Description: Datasheet; ComponentLink2URL: http://cds.linear.com/docs/en/datasheet/3030fa.pdf; ComponentLink3Description: Package Specification; ComponentLink3URL: http://cds.linear.com/docs/en/packaging/05081663__J_FE20(CB).pdf
footprint LT-FE-20-EPV-CB_N (SOP, 20-Leads, Body 6.6x4.5mm, Pitch 0.65mm, Thermal Pad 3.86x2.74mm, IPC Medium Density)
footprint LT-FE-20-EPV-CB_L (SOP, 20-Leads, Body 6.6x4.5mm, Pitch 0.65mm, Thermal Pad 3.86x2.74mm, IPC High Density)
footprint LT-FE-20-EPV-CB_M (SOP, 20-Leads, Body 6.6x4.5mm, Pitch 0.65mm, Thermal Pad 3.86x2.74mm, IPC Low Density)
part A pins: 1 ADJ1 (in) "Adjust Pin. These are the error amplifier inputs. These pins are internally clamped to +/-9V. A typical input bias current of 30nA flows into the pins (see curve of ADJ1/ADJ2 Pin Bias Current vs Temperature in the Typical (See Datasheet)", 2 BYP1 "Bypass. Connecting a capacitor between OUT and BYP of a respective channel bypasses the LT3030 reference to achieve low noise performance, improve transient response and soft-start the output. Internal circuitry clamps the (See Datasheet)", 3 OUT1 (power) "Output. The OUT1/OUT2 pins supply power to the loads. A minimum 10uF/3.3uF output capacitor prevents oscillations on OUT1/OUT2. Applications with large output load transients require larger values of output capacitance to (See Datasheet)", 4 OUT1 (power) "Output. The OUT1/OUT2 pins supply power to the loads. A minimum 10uF/3.3uF output capacitor prevents oscillations on OUT1/OUT2. Applications with large output load transients require larger values of output capacitance to (See Datasheet)", 7 OUT2 (power) "Output. The OUT1/OUT2 pins supply power to the loads. A minimum 10uF/3.3uF output capacitor prevents oscillations on OUT1/OUT2. Applications with large output load transients require larger values of output capacitance to (See Datasheet)", 8 OUT2 (power) "Output. The OUT1/OUT2 pins supply power to the loads. A minimum 10uF/3.3uF output capacitor prevents oscillations on OUT1/OUT2. Applications with large output load transients require larger values of output capacitance to (See Datasheet)", 9 BYP2 "Bypass. Connecting a capacitor between OUT and BYP of a respective channel bypasses the LT3030 reference to achieve low noise performance, improve transient response and soft-start the output. Internal circuitry clamps the (See Datasheet)", 10 ADJ2 (in) "Adjust Pin. These are the error amplifier inputs. These pins are internally clamped to +/-9V. A typical input bias current of 30nA flows into the pins (see curve of ADJ1/ADJ2 Pin Bias Current vs Temperature in the Typical (See Datasheet)", 11 ~{SHDN2} (in) "Shutdown. Pulling the S\H\D\N\1\ or S\H\D\N\2\ pin low puts its corresponding LT3030 channel into a low power state and turns its output off. The S\H\D\N\1\ and S\H\D\N\2\ pins are completely independent of each other, and (See Datasheet)", 12 PWRGD2 (hiz) "Power Good. The PWRGD flag is an open-collector flag to indicate that the output voltage has increased above 90% of the nominal output voltage. There is no internal pull-up on this pin; a pull-up resistor must be used. The (See Datasheet)", 13 IN2 (power) "Input. The IN1/IN2 pins supply power to each channel. The LT3030 requires a bypass capacitor at the IN1/IN2 pins if located more than six inches away from the main input filter capacitor. Include a bypass capacitor in (See Datasheet)", 14 IN2 (power) "Input. The IN1/IN2 pins supply power to each channel. The LT3030 requires a bypass capacitor at the IN1/IN2 pins if located more than six inches away from the main input filter capacitor. Include a bypass capacitor in (See Datasheet)", 17 IN1 (power) "Input. The IN1/IN2 pins supply power to each channel. The LT3030 requires a bypass capacitor at the IN1/IN2 pins if located more than six inches away from the main input filter capacitor. Include a bypass capacitor in (See Datasheet)", 18 IN1 (power) "Input. The IN1/IN2 pins supply power to each channel. The LT3030 requires a bypass capacitor at the IN1/IN2 pins if located more than six inches away from the main input filter capacitor. Include a bypass capacitor in (See Datasheet)", 19 PWRGD1 (hiz) "Power Good. The PWRGD flag is an open-collector flag to indicate that the output voltage has increased above 90% of the nominal output voltage. There is no internal pull-up on this pin; a pull-up resistor must be used. The (See Datasheet)", 20 ~{SHDN1} (in) "Shutdown. Pulling the S\H\D\N\1\ or S\H\D\N\2\ pin low puts its corresponding LT3030 channel into a low power state and turns its output off. The S\H\D\N\1\ and S\H\D\N\2\ pins are completely independent of each other, and (See Datasheet)"
part B pins: 5 GND (power) "Ground. The exposed pad (backside) of the QFN and TSSOP packages is an electrical connection to GND. To ensure proper electrical and thermal performance, solder the exposed pad to the PCB ground and tie directly to GND pins. (See Datasheet)", 6 GND (power) "Ground. The exposed pad (backside) of the QFN and TSSOP packages is an electrical connection to GND. To ensure proper electrical and thermal performance, solder the exposed pad to the PCB ground and tie directly to GND pins. (See Datasheet)", 15 GND (power) "Ground. The exposed pad (backside) of the QFN and TSSOP packages is an electrical connection to GND. To ensure proper electrical and thermal performance, solder the exposed pad to the PCB ground and tie directly to GND pins. (See Datasheet)", 16 GND (power) "Ground. The exposed pad (backside) of the QFN and TSSOP packages is an electrical connection to GND. To ensure proper electrical and thermal performance, solder the exposed pad to the PCB ground and tie directly to GND pins. (See Datasheet)", 21 EP (power) "Ground. The exposed pad (backside) of the QFN and TSSOP packages is an electrical connection to GND. To ensure proper electrical and thermal performance, solder the exposed pad to the PCB ground and tie directly to GND pins. (See Datasheet)"

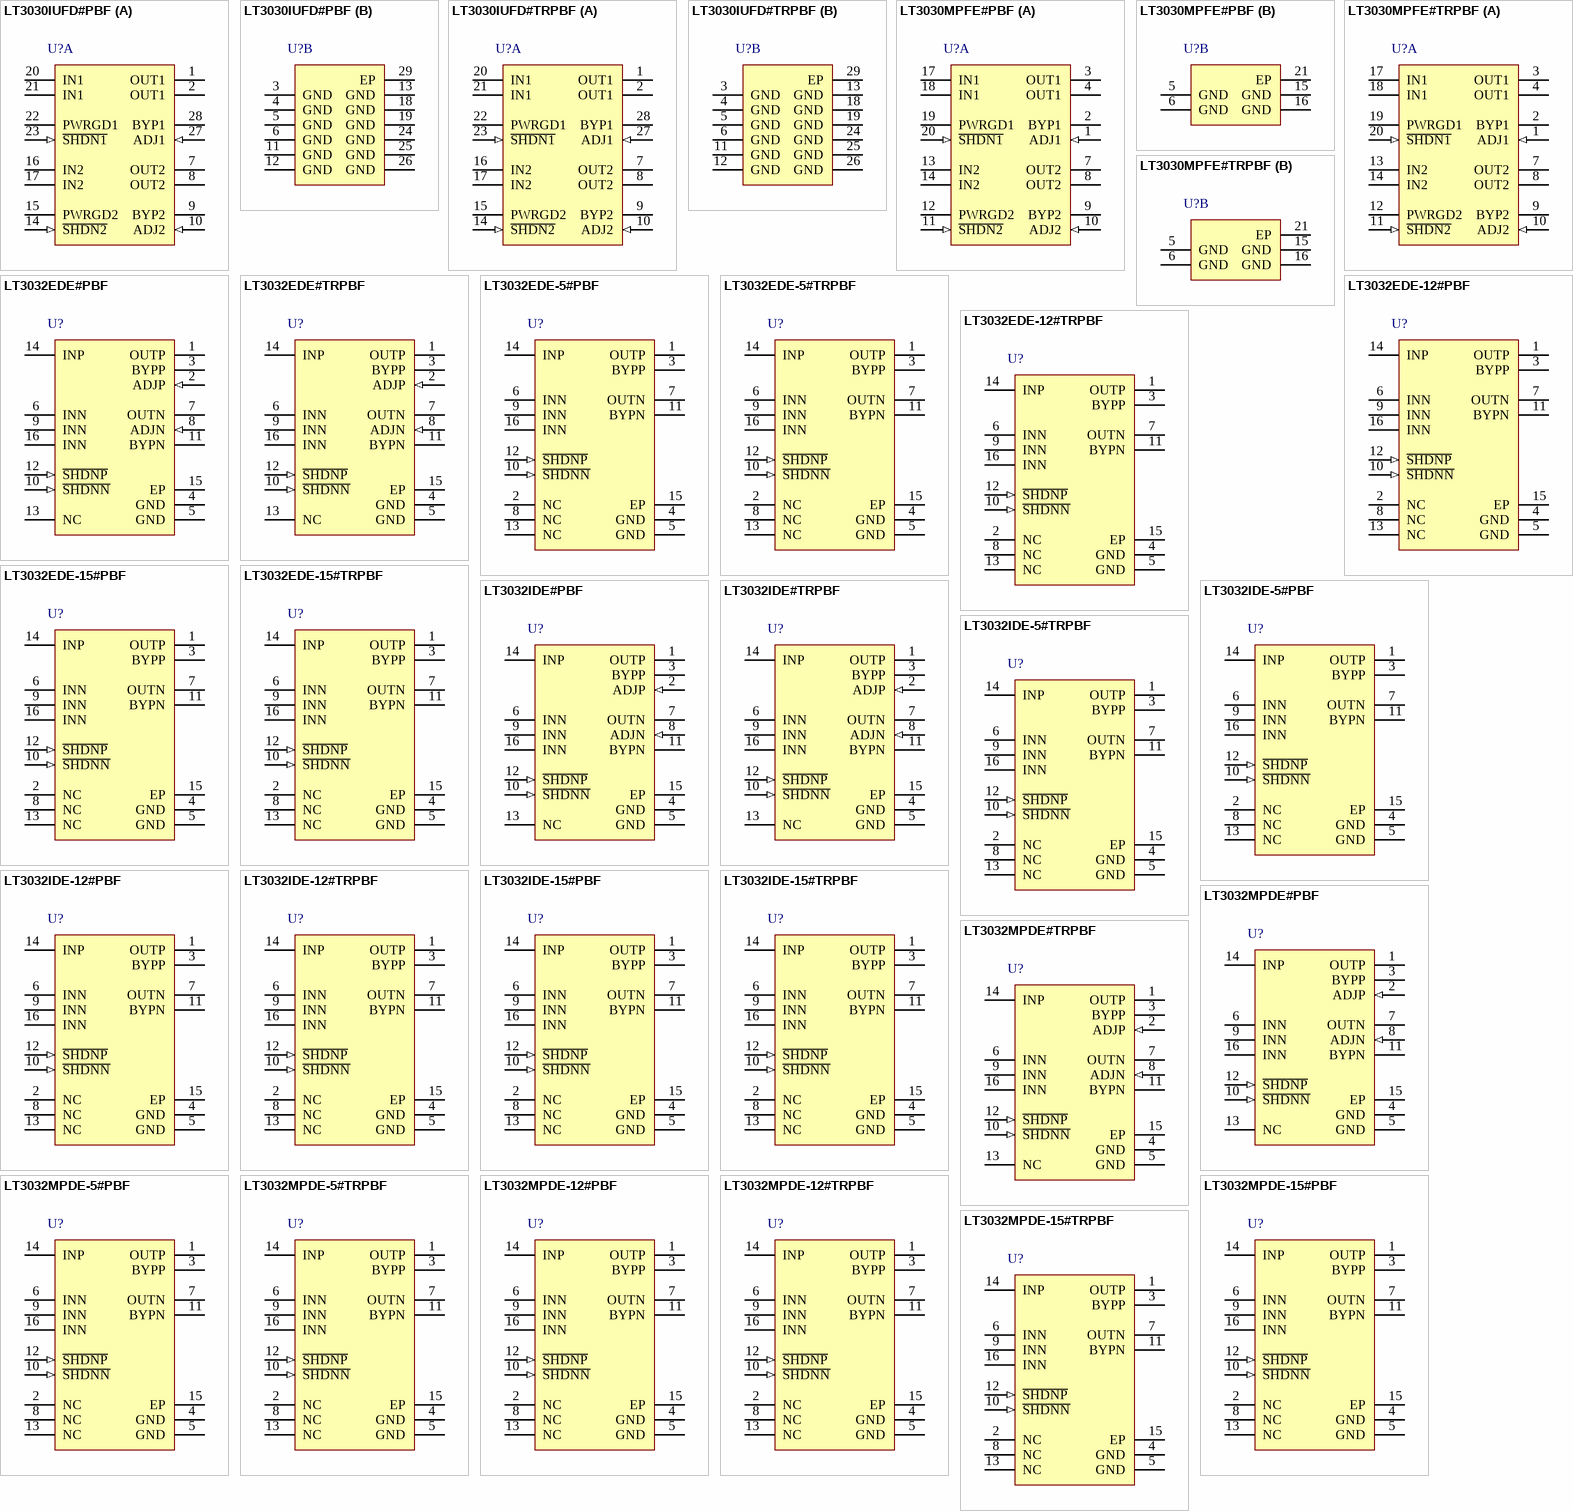
[diagram p58: symbols LT3030IUFD#PBF to LT3032MPDE-15#TRPBF]